# Altium schematic symbol library VIPER_BP_CARD_HOLDER.SchLib: 1 symbol
Pins are listed as number, name and electrical type; pins without a type are passive.

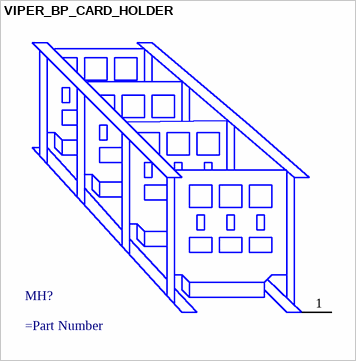
[diagram p0: symbol VIPER_BP_CARD_HOLDER]

## VIPER_BP_CARD_HOLDER
designator MH?
=Description
pins: 1